# Altium schematic symbol library Amplifiers.SchLib: 86 symbols (part 2 of 2)
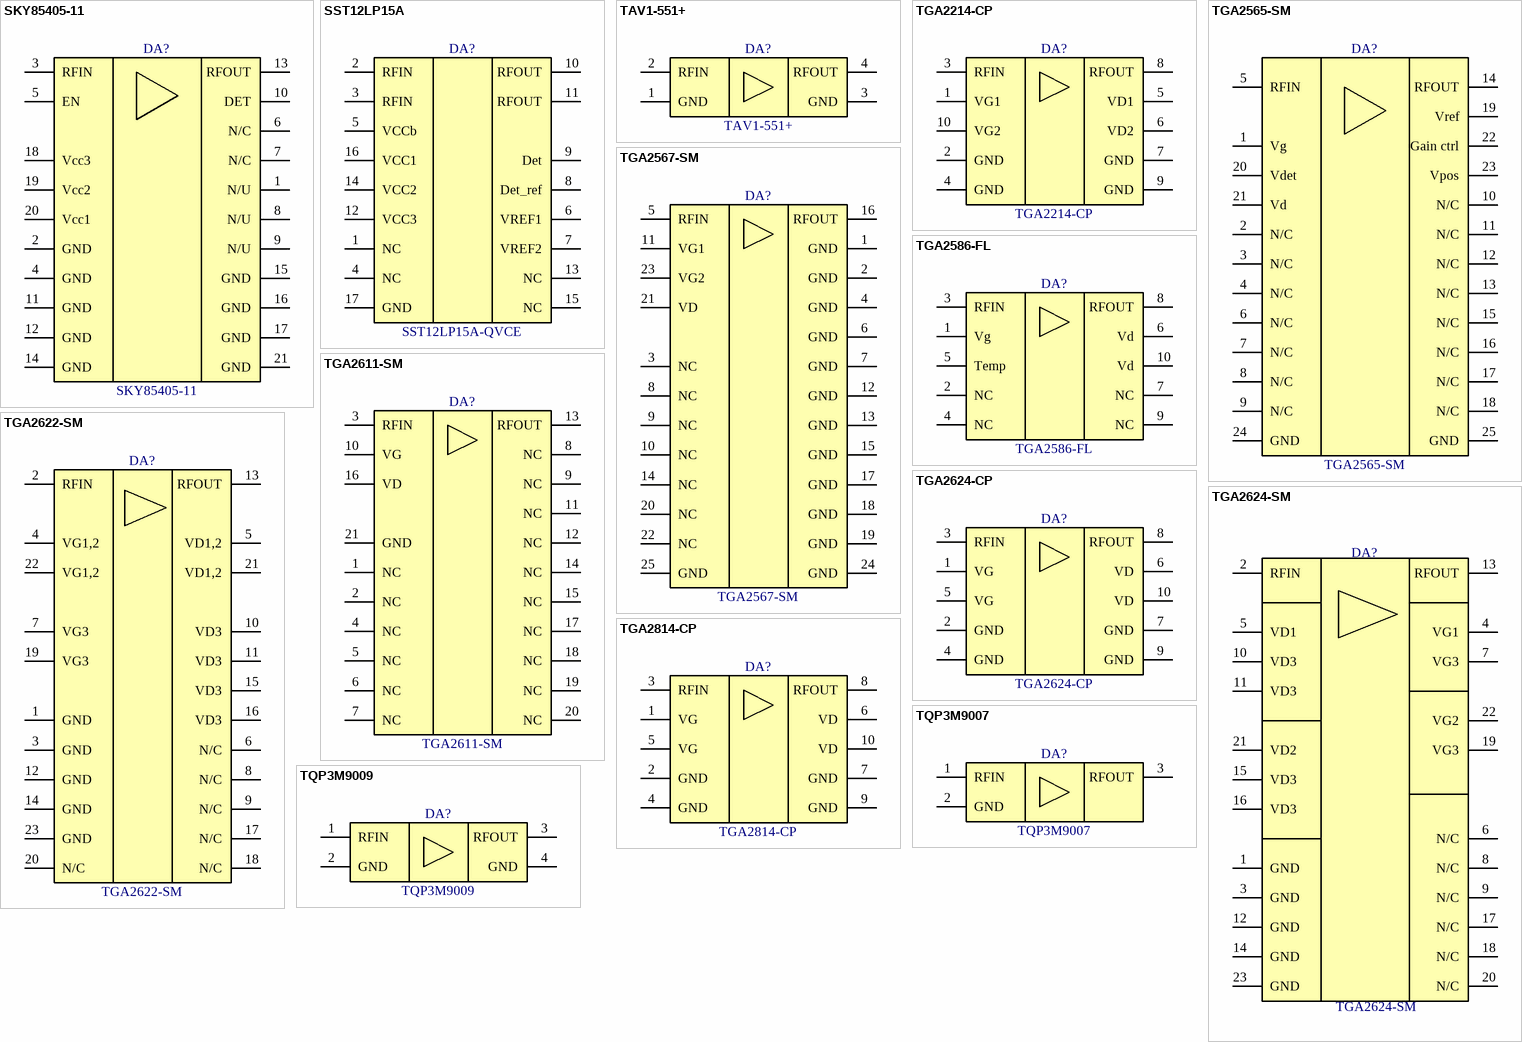
[diagram p5: symbols SKY85405-11 to TQP3M9009]

## TGA2814-CP
designator DA?
3.1 to 3.6 GHz, 80W GaN Power Amplifier; Manufacturer: Qorvo; PartNumber: TGA2814-CP; ComponentLink1Description: Product Page; ComponentLink1URL: https://www.qorvo.com/products/p/TGA2814-CP; ComponentLink2Description: DataSheet; ComponentLink2URL: https://www.qorvo.com/products/d/da004392
footprint TGA2814-CP (10-lead 15x15 mm  bolt-down package with a Cu base)
pins: 1 VG, 2 GND, 3 RFIN, 4 GND, 5 VG, 6 VD, 7 GND, 8 RFOUT, 9 GND, 10 VD

## TQP3M9007
designator DA?
100 - 4000 MHz High Linearity Low Noise Amplifier Gain Block; Manufacturer: Qorvo; PartNumber: TQP3M9007; ComponentLink1Description: Product Page; ComponentLink1URL: https://www.qorvo.com/products/p/TQP3M9007; ComponentLink2Description: DataSheet; ComponentLink2URL: https://www.qorvo.com/products/d/da005498
footprint SOT89-150P360X160-3N (SOT89, 3-Leads, Body 4.50x2.45mm, Pitch 1.50mm, Lead Span 3.6mm, IPC Medium Density)
pins: 1 RFIN, 2 GND, 3 RFOUT

## TQP3M9009
designator DA?
High Linearity LNA Gain Block; Manufacturer: Qorvo; PartNumber: TQP3M9009; ComponentLink1Description: Product Page; ComponentLink1URL: https://www.qorvo.com/products/p/TQP3M9009; ComponentLink2Description: DataSheet; ComponentLink2URL: https://www.qorvo.com/products/d/da005510
footprint DPAK4P150_512X160L104X46T320X183N (DPAK, 1.50 mm pitch; 3 pin, 2.45 mm L X 4.50 mm W X 1.60 mm H body)
pins: 1 RFIN, 2 GND, 3 RFOUT, 4 GND